# EAGLE library part PORT_EXPANSION_VIC_EDGE (library commodore)
Expansionport of the Commodore VIC-20
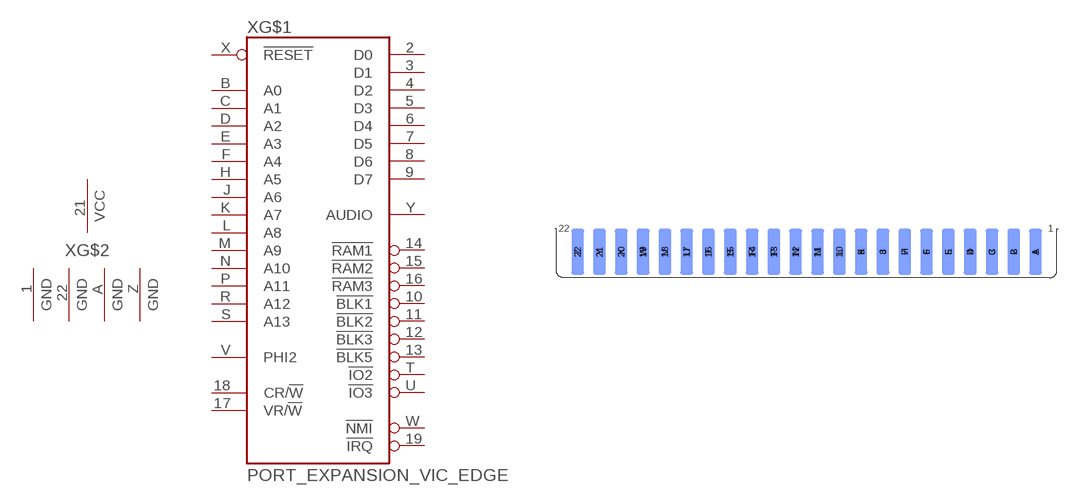
[diagram p31: symbol with the pads of MA156-22-2; footprint MA156-22-2]

Designator prefix X; gates G$1=PORT_EXPANSION_VIC20_EDGE G$2=PWR-GND4

## PORT_EXPANSION_VIC_EDGE  [MA156-22-2]
1  G$2:GND  pwr
2  G$1:D0
3  G$1:D1
4  G$1:D2
5  G$1:D3
6  G$1:D4
7  G$1:D5
8  G$1:D6
9  G$1:D7
10  G$1:!BLK1  out
11  G$1:!BLK2  out
12  G$1:!BLK3  out
13  G$1:!BLK5  out
14  G$1:!RAM1  out
15  G$1:!RAM2  out
16  G$1:!RAM3  out
17  G$1:VR/!W  out
18  G$1:CR/!W  out
19  G$1:!IRQ
21  G$2:VCC  pwr
22  G$2:GND  pwr
A  G$2:GND  pwr
B  G$1:A0  out
C  G$1:A1  out
D  G$1:A2  out
E  G$1:A3  out
F  G$1:A4  out
H  G$1:A5  out
J  G$1:A6  out
K  G$1:A7  out
L  G$1:A8  out
M  G$1:A9  out
N  G$1:A10  out
P  G$1:A11  out
R  G$1:A12  out
S  G$1:A13  out
T  G$1:!IO2  out
U  G$1:!IO3  out
V  G$1:PHI2  out
W  G$1:!NMI
X  G$1:!RESET
Y  G$1:AUDIO  pas
Z  G$2:GND  pwr

## Footprint MA156-22-2 (pad centres in mm)
smd 2.286 x 8.255: 1 41.605,-0.381; 2 37.643,-0.381; 3 33.68,-0.381; 4 29.718,-0.381; 5 25.756,-0.381; 6 21.793,-0.381; 7 17.831,-0.381; 8 13.868,-0.381; 9 9.906,-0.381; 10 5.944,-0.381; 11 1.981,-0.381; 12 -1.981,-0.381; 13 -5.944,-0.381; 14 -9.906,-0.381; 15 -13.868,-0.381; 16 -17.831,-0.381; 17 -21.793,-0.381; 18 -25.756,-0.381; 19 -29.718,-0.381; 20 -33.68,-0.381; 21 -37.643,-0.381; 22 -41.605,-0.381
smd 2.286 x 8.255 bottom: A 41.605,-0.381; B 37.643,-0.381; C 33.68,-0.381; D 29.718,-0.381; E 25.756,-0.381; F 21.793,-0.381; H 17.831,-0.381; J 13.868,-0.381; K 9.906,-0.381; L 5.944,-0.381; M 1.981,-0.381; N -1.981,-0.381; P -5.944,-0.381; R -9.906,-0.381; S -13.868,-0.381; T -17.831,-0.381; U -21.793,-0.381; V -25.756,-0.381; W -29.718,-0.381; X -33.68,-0.381; Y -37.643,-0.381; Z -41.605,-0.381